# Altium schematic symbol library EButterflySchmeticLibrary.SCHLIB: 120 symbols
Pins are listed as number, name and electrical type; pins without a type are passive.

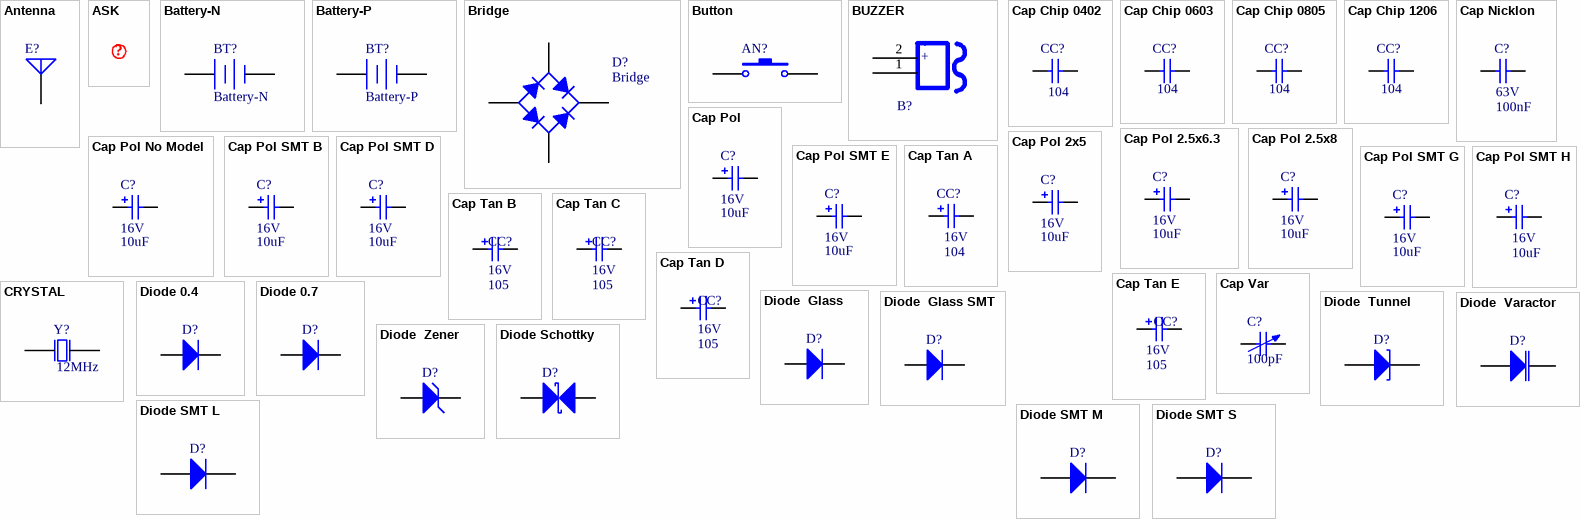
[diagram p0: symbols Antenna to Diode SMT S]

## Antenna
designator E?
Generic Antenna; Published: 24-Mar-1999; Revision: July-2002: Re-released for DXP Platform.; Publisher: Altium Limited
footprint TP
pins: 1 A

## ASK
designator SY?  (value not drawn)
text: ?

## Battery-N
designator BT?
Multicell Battery; Published: 24-Mar-1999; Revision: July-2002: Re-released for DXP Platform.; Publisher: Altium Limited
footprint BAT-CR2032 (CR2032电池座（未加焊）)
pins: 1 -, 2 +

## Battery-P
designator BT?
Multicell Battery; Published: 24-Mar-1999; Revision: July-2002: Re-released for DXP Platform.; Publisher: Altium Limited
footprint BAT-15*4
pins: 1 -, 2 +

## Bridge
designator D?
Full Wave Diode Bridge; Published: 8-Jun-2000; Revision: July-2002: Re-released for DXP Platform.; Publisher: Altium Limited
footprint BRIDGE-P4/D10 (Footprint not found)
footprint BRIDGE-P4/X2.1 (Footprint not found)
footprint BRIDGE-P4/DIP (Footprint not found)
pins: 1 A, 2 C, 3 K, 4 C

## Button
designator AN?  (value not drawn)
Published: 24-Mar-1999; LatestRevisionDate: 17-Jul-2002; LatestRevisionNote: Re-released for DXP Platform.; PackageReference: SPST-2; Publisher: Altium Limited
footprint BUTTON-DIP
footprint B82793 (Footprint not found)
footprint KEY2 (Footprint not found)
footprint BUTTON-BIG-DIP
pins: 1, 2

## BUZZER
designator B?
footprint BUZZER
3D model D7-12-BUZZER (PCB3D Model)
pins: 1, 2
text: +

## Cap Chip 0402
designator CC?  value 104  (hidden comment: Cap Chip 0402)
Polarized Capacitor (Radial); Published: 8-Jun-2000; Revision: July-2002: Re-released for DXP Platform.; Publisher: Altium Limited
footprint CC1005-0402
3D model CC0402 (PCB3D Model)
pins: 1, 2

## Cap Chip 0603
designator CC?  value 104  (hidden comment: Cap Chip 0603)
Polarized Capacitor (Radial); Published: 8-Jun-2000; Revision: July-2002: Re-released for DXP Platform.; Publisher: Altium Limited
footprint CC1608-0603
pins: 1, 2

## Cap Chip 0805
designator CC?  value 104  (hidden comment: Cap Chip 0805)
Polarized Capacitor (Radial); Published: 8-Jun-2000; Revision: July-2002: Re-released for DXP Platform.; Publisher: Altium Limited
footprint CC2012-0805
pins: 1, 2

## Cap Chip 1206
designator CC?  value 104  (hidden comment: Cap Chip 1206)
Polarized Capacitor (Radial); Published: 8-Jun-2000; Revision: July-2002: Re-released for DXP Platform.; Publisher: Altium Limited
footprint CC3216-1206
pins: 1, 2

## Cap Nicklon
designator C?  value 100nF  Voltage: 63V  (hidden comment: Cap Nicklon)
Capacitor; Published: 8-Jun-2000; Revision: July-2002: Re-released for DXP Platform.; Publisher: Altium Limited
footprint Capacitor-Disk-Small
footprint Capacitor-Disk-Middle
footprint Capacitor-Disk-Large
pins: 1, 2

## Cap Pol
designator C?  value 10uF  Voltage: 16V  (hidden comment: Cap Pol)
Polarized Capacitor (Radial); Published: 8-Jun-2000; Revision: July-2002: Re-released for DXP Platform.; Publisher: Altium Limited
footprint CAPPR1.5-4X5
footprint CAPPR2.5-6.3X11.5
footprint CAPPR10-25X30
footprint CAPPR1.5-4X7
footprint CAPPR2-5X11.5
footprint CAPPR2.5-6.3X7
footprint CAPPR3.5-8X12
footprint CAPPR7.5-16X20
pins: 1, 2

## Cap Pol 2.5x6.3
designator C?  value 10uF  Voltage: 16V  (hidden comment: Cap Pol 2.5x6.3)
Polarized Capacitor (Radial); Published: 8-Jun-2000; Revision: July-2002: Re-released for DXP Platform.; Publisher: Altium Limited
footprint CAPPR2.5-6.3X11
footprint CAPPR2.5-6.3X5
footprint CAPPR2.5-6.3X6.8
footprint CAPPR2.5-6.3X7
footprint CAPPR2.5-6.3X9.8
footprint CAPPR2.5-6.3X11.5
footprint CAPPR2.5-6.3X15
pins: 1, 2

## Cap Pol 2.5x8
designator C?  value 10uF  Voltage: 16V  (hidden comment: Cap Pol 2.5x8)
Polarized Capacitor (Radial); Published: 8-Jun-2000; Revision: July-2002: Re-released for DXP Platform.; Publisher: Altium Limited
footprint CAPPR2.5-8X5
footprint CAPPR2.5-8X9.8
footprint CAPPR2.5-8X11
pins: 1, 2

## Cap Pol 2x5
designator C?  value 10uF  Voltage: 16V  (hidden comment: Cap Pol 2x5)
Polarized Capacitor (Radial); Published: 8-Jun-2000; Revision: July-2002: Re-released for DXP Platform.; Publisher: Altium Limited
footprint CAPPR2-5X5
footprint CAPPR2-5X6.8
footprint CAPPR2-5X7
footprint CAPPR2-5X11
footprint CAPPR2-5X11.5
footprint CAPPR2-5X15
pins: 1, 2

## Cap Pol No Model
designator C?  value 10uF  Voltage: 16V  (hidden comment: Cap Pol No Model)
Polarized Capacitor (Radial); Published: 8-Jun-2000; Revision: July-2002: Re-released for DXP Platform.; Publisher: Altium Limited
pins: 1, 2

## Cap Pol SMT B
designator C?  value 10uF  Voltage: 16V  (hidden comment: Cap Pol SMT B)
Polarized Capacitor (Radial); Published: 8-Jun-2000; Revision: July-2002: Re-released for DXP Platform.; Publisher: Altium Limited
3D model SL-B (PCB3D Model)
footprint ED4
pins: 1, 2

## Cap Pol SMT D
designator C?  value 10uF  Voltage: 16V  (hidden comment: Cap Pol SMT D)
Polarized Capacitor (Radial); Published: 8-Jun-2000; Revision: July-2002: Re-released for DXP Platform.; Publisher: Altium Limited
3D model SL-D (PCB3D Model)
footprint ED5
pins: 1, 2

## Cap Pol SMT E
designator C?  value 10uF  Voltage: 16V  (hidden comment: Cap Pol SMT E)
Polarized Capacitor (Radial); Published: 8-Jun-2000; Revision: July-2002: Re-released for DXP Platform.; Publisher: Altium Limited
3D model SL-E (PCB3D Model)
footprint ED6.3
pins: 1, 2

## Cap Pol SMT G
designator C?  value 10uF  Voltage: 16V  (hidden comment: Cap Pol SMT G)
Polarized Capacitor (Radial); Published: 8-Jun-2000; Revision: July-2002: Re-released for DXP Platform.; Publisher: Altium Limited
3D model SL-G (PCB3D Model)
footprint ED8
pins: 1, 2

## Cap Pol SMT H
designator C?  value 10uF  Voltage: 16V  (hidden comment: Cap Pol SMT H)
Polarized Capacitor (Radial); Published: 8-Jun-2000; Revision: July-2002: Re-released for DXP Platform.; Publisher: Altium Limited
3D model SL-H (PCB3D Model)
footprint ED10
pins: 1, 2

## Cap Tan A
designator CC?  value 104  Voltage: 16V  (hidden comment: Cap Tan A)
Polarized Capacitor (Radial); Published: 8-Jun-2000; Revision: July-2002: Re-released for DXP Platform.; Publisher: Altium Limited
footprint TAN-A-3216
3D model TAJ-A (PCB3D Model)
pins: 1 2, 2 1

## Cap Tan B
designator CC?  Capacitance: 105  Voltage: 16V  (hidden comment: Cap Tan B)
Polarized Capacitor (Radial); Published: 8-Jun-2000; Revision: July-2002: Re-released for DXP Platform.; Publisher: Altium Limited
footprint TAN-B-3528
3D model TAJ-B (PCB3D Model)
pins: 1 2, 2 1

## Cap Tan C
designator CC?  Capacitance: 105  Voltage: 16V  (hidden comment: Cap Tan C)
Polarized Capacitor (Radial); Published: 8-Jun-2000; Revision: July-2002: Re-released for DXP Platform.; Publisher: Altium Limited
footprint TAN-C-6032
3D model TAJ-C (PCB3D Model)
pins: 1 2, 2 1

## Cap Tan D
designator CC?  Capacitance: 105  Voltage: 16V  (hidden comment: Cap Tan D)
Polarized Capacitor (Radial); Published: 8-Jun-2000; Revision: July-2002: Re-released for DXP Platform.; Publisher: Altium Limited
footprint TAN-D-7343
3D model TAJ-D (PCB3D Model)
pins: 1 2, 2 1

## Cap Tan E
designator CC?  Capacitance: 105  Voltage: 16V  (hidden comment: Cap Tan E)
Polarized Capacitor (Radial); Published: 8-Jun-2000; Revision: July-2002: Re-released for DXP Platform.; Publisher: Altium Limited
footprint TAN-E-7361
3D model TAJ-E (PCB3D Model)
pins: 1 2, 2 1

## Cap Var
designator C?  value 100pF  (hidden comment: Cap Var)
Variable or Adjustable Capacitor; Published: 24-Mar-1999; Revision: July-2002: Re-released for DXP Platform.; Publisher: Altium Limited
footprint CC3225-1210 (Chip Capacitor; Body 3.2 x 2.5 mm (LxW typ))
pins: 1, 2

## CRYSTAL
designator Y?  Frequency: 12MHz  (hidden comment: CRYSTAL)
Crystal Oscillator; Published: 8-Jun-2000; Revision: July-2002: Re-released for DXP Platform.; Publisher: Altium Limited
footprint X5032
footprint X5070
footprint X6035
pins: 1 OSC1, 2 OSC1, 3 OSC2, 4 OSC2

## Diode 0.4
designator D?
Default Diode; Code - JEDEC: DO-214-AB; Published: 8-Jun-2000; Revision: July-2002: Re-released for DXP Platform.; Publisher: Altium Limited
footprint DIODE-0.4
3D model DO-41 (PCB3D Model)
pins: 1 A, 2 K

## Diode 0.7
designator D?
Default Diode; Code - JEDEC: DO-214-AB; Published: 8-Jun-2000; Revision: July-2002: Re-released for DXP Platform.; Publisher: Altium Limited
footprint DIODE-0.7
pins: 1 A, 2 K

## Diode  Glass
designator D?
High Conductance Fast Diode; Revision 1: 11-Jul-2000: SIM Model Added.; Revision 2: 17-Jul-2002: Re-released for DXP Platform.; Code - JEDEC: DO-204-AH; Published: 8-Jun-2000; Datasheet: Latest Revision: 1997; Package Reference: DO-35; Publisher: Altium Limited
footprint DIODE-0.3
pins: 1 A, 2 K

## Diode  Glass SMT
designator D?  (value not drawn)
High Conductance Fast Diode; Revision 1: 11-Jul-2000: SIM Model Added.; Revision 2: 17-Jul-2002: Re-released for DXP Platform.; Code - JEDEC: DO-204-AH; Published: 8-Jun-2000; Datasheet: Latest Revision: 1997; Package Reference: DO-35; Publisher: Altium Limited
footprint DSO-C2/X2.3
3D model SOD-80 (PCB3D Model)
footprint DSO-C2/X3.3
footprint DSO-F2/D6.1
pins: 1 A, 2 K

## Diode  Tunnel
designator D?  (value not drawn)
Tunnel Diode - RLC Model; Revision 1: 15-Apr-2002: Text note added.; Revision 2: July-2002: Re-released for DXP Platform.; Published: 8-Jun-2000; Publisher: Altium Limited
footprint DSO-F2/D6.1 (SMT LED; 2 Flat Leads)
pins: 1 A, 2 K

## Diode  Varactor
designator D?  (value not drawn)
Variable Capacitance Diode; Note: Pin 2 is not connected and not drawn; Code - JEDEC: SOT23; Published: 8-Jun-2000; Revision: July-2002: Re-released for DXP Platform.; Datasheet: Latest Revision: Jan-1998; Package Reference: SOT23; Publisher: Altium Limited
footprint SO-G3/Z3.3 (SOT-23; 3 Leads; Body 3.0 x 2.5 mm, inc. leads (LxW max))
pins: 1 K, 3 A

## Diode  Zener
designator D?  (value not drawn)
Zener Diode; Published: 8-Jun-2000; Revision: July-2002: Re-released for DXP Platform.; Publisher: Altium Limited
footprint DIODE-0.7 (Zener Diode; 2 Leads)
footprint DIODE-0.3
footprint DIODE-0.4
pins: 1 A, 2 K

## Diode Schottky
designator D?  (value not drawn)
Schottky Diode; Published: 8-Jun-2000; LatestRevisionDate: 17-Jul-2002; LatestRevisionNote: Re-released for DXP Platform.; PackageReference: SMB; Publisher: Altium Limited; Code_JEDEC: DO-214-AA
footprint DSO-C2/X2.3 (DO-214-AA/SMB; 2 C-Bend Leads; Body 5.3 x 3.6 mm, inc. leads (LxW))
pins: 1 A, 2 K

## Diode SMT L
designator D?
Default Diode; Code - JEDEC: DO-214-AB; Published: 8-Jun-2000; Revision: July-2002: Re-released for DXP Platform.; Publisher: Altium Limited
footprint DSO-F2/D6.1
3D model DO-214AC (PCB3D Model)
pins: 1 A, 2 K

## Diode SMT M
designator D?
Default Diode; Code - JEDEC: DO-214-AB; Published: 8-Jun-2000; Revision: July-2002: Re-released for DXP Platform.; Publisher: Altium Limited
footprint DSO-F2/D6.1
3D model DO-214AB (PCB3D Model)
pins: 1 A, 2 K

## Diode SMT S
designator D?
Default Diode; Code - JEDEC: DO-214-AB; Published: 8-Jun-2000; Revision: July-2002: Re-released for DXP Platform.; Publisher: Altium Limited
footprint DSO-C2/X3.3
3D model DO-214AA (PCB3D Model)
pins: 1 A, 2 K

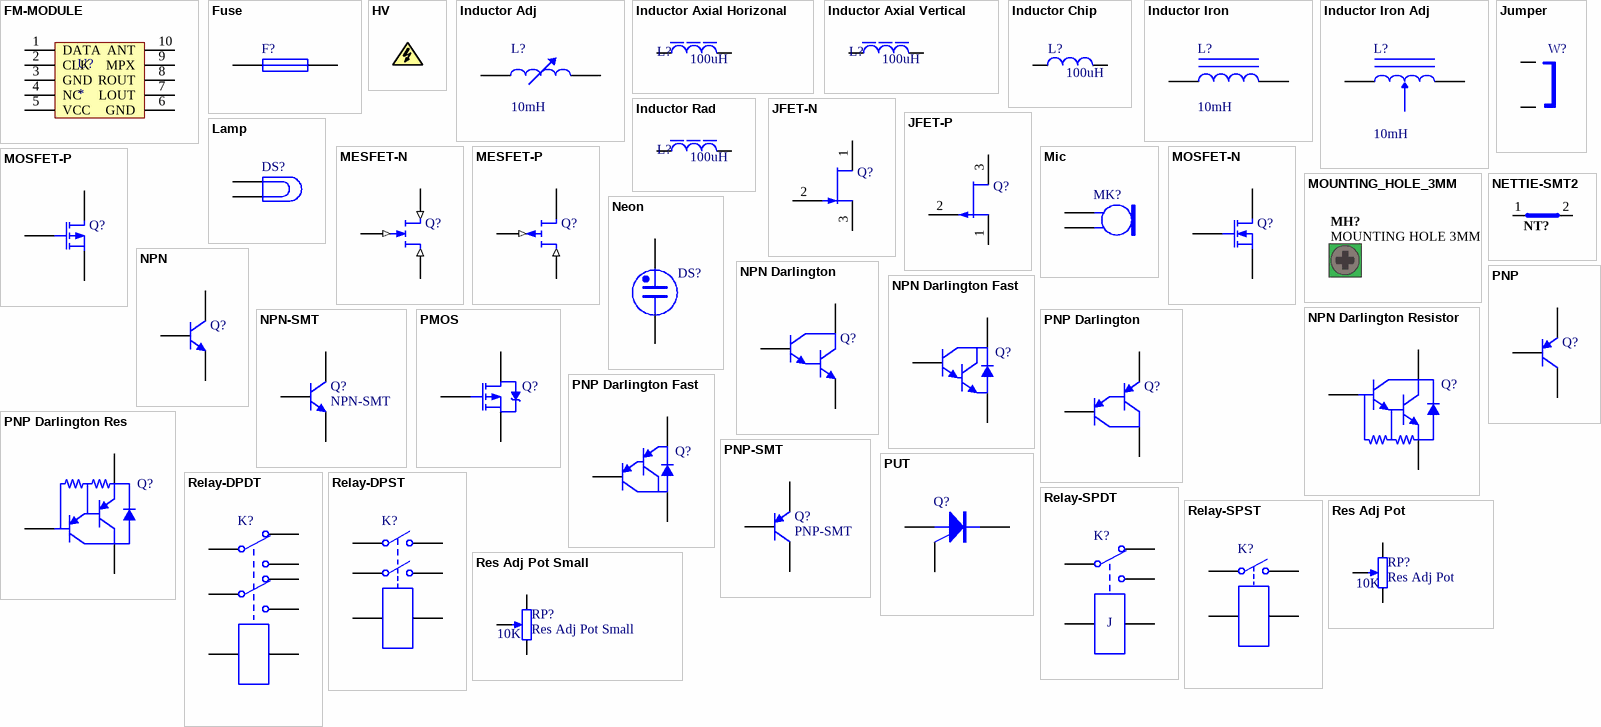
[diagram p1: symbols FM-MODULE to Res Adj Pot Small]

## FM-MODULE
designator U?
FM-RECIVER
footprint FM-MODULE
pins: 1 DATA, 2 CLK, 3 GND, 4 NC, 5 VCC, 6 GND, 7 LOUT, 8 ROUT, 9 MPX, 10 ANT

## Fuse
designator F?
Fuse; Published: 8-Jun-2000; Revision: July-2002: Re-released for DXP Platform.; Publisher: Altium Limited
footprint FUSE
footprint FUSE-15MM
footprint FUSE-30MM
footprint FUSE-L
pins: 1, 2

## HV
designator HV?  (value not drawn)
footprint HV-FLAG

## Inductor Adj
designator L?  value 10mH
Adjustable Inductor; Set Position: 0.5; Published: 24-Mar-1999; Revision: July-2002: Re-released for DXP Platform.; Publisher: Altium Limited
footprint AXIAL-0.8 (Adjustable Inductor; 2 Leads)
pins: 1, 2

## Inductor Axial Horizonal
designator L?  value 100uH  (hidden comment: Inductor Axial Horizonal)
Inductor; Published: 8-Jun-2000; Revision: July-2002: Re-released for DXP Platform.; Publisher: Altium Limited
footprint INDUCTOR-AXIAL-H0.2
footprint INDUCTOR-AXIAL-H0.3 (1/8W电阻)
footprint INDUCTOR-AXIAL-H0.4
footprint INDUCTOR-AXIAL-H0.5
footprint INDUCTOR-AXIAL-H0.6
pins: 1, 2

## Inductor Axial Vertical
designator L?  value 100uH  (hidden comment: Inductor Axial Vertical)
Inductor; Published: 8-Jun-2000; Revision: July-2002: Re-released for DXP Platform.; Publisher: Altium Limited
footprint INDUCTOR-AXIAL0.1
footprint INDUCTOR-AXIAL0.2
pins: 1, 2

## Inductor Chip
designator L?  value 100uH  (hidden comment: Inductor Chip)
Inductor; Published: 8-Jun-2000; Revision: July-2002: Re-released for DXP Platform.; Publisher: Altium Limited
footprint CR1005-0402
footprint CC4532-1812
footprint CR1608-0603
footprint CR2012-0805
footprint CC3216-1206
pins: 1, 2

## Inductor Iron
designator L?  value 10mH
Magnetic-Core Inductor; Published: 24-Mar-1999; Revision: July-2002: Re-released for DXP Platform.; Publisher: Altium Limited
footprint AXIAL-0.9 (Magnetic-Core Inductor; 2 Leads)
pins: 1, 2

## Inductor Iron Adj
designator L?  value 10mH
Adjustable Magnetic-Core Inductor; Set Position: 0.5; Published: 24-Mar-1999; Revision: July-2002: Re-released for DXP Platform.; Publisher: Altium Limited
footprint AXIAL-1.0 (Adjustable Magnetic-Core Inductor; 2 Leads)
pins: 1, 2

## Inductor Rad
designator L?  value 100uH  (hidden comment: Inductor Rad)
Inductor; Published: 8-Jun-2000; Revision: July-2002: Re-released for DXP Platform.; Publisher: Altium Limited
footprint INDUCTOR-RAD.1
footprint INDUCTOR-RAD.2
pins: 1, 2

## JFET-N
designator Q?
N-Channel JFET; Code - JEDEC: TO-254-AA; Published: 8-Jun-2000; Revision: July-2002: Re-released for DXP Platform.; Publisher: Altium Limited
footprint SFM-T3/A6.6V (TO, Thru-Hole, Vertical, Heatsink Mounted; 3 In-Line Leads; Pitch 3.81 mm)
pins: 1 D, 2 G, 3 S

## JFET-P
designator Q?
P-Channel JFET; Published: 8-Jun-2000; Revision: July-2002: Re-released for DXP Platform.; Package Reference: TO-18; Publisher: Altium Limited
footprint SO-F3/Y.75R (SC-89; 3 Flat Leads; Body 1.6 x 1.6 x 0.7 mm, inc leads (LxWxH typ))
pins: 1 D, 2 G, 3 S

## Jumper
designator W?
Jumper Wire; Published: 24-Mar-1999; Revision: July-2002: Re-released for DXP Platform.; Publisher: Altium Limited
footprint JUMP-10MM
footprint JUMP-14MM
footprint JUMP-15MM
footprint HDR1X2 (Connector; Header; 2 Position)
pins: 1, 2

## Lamp
designator DS?
Incandescent Bulb; Published: 24-Mar-1999; Revision: July-2002: Re-released for DXP Platform.; Publisher: Altium Limited
footprint LED-R5-H5-HAT
pins: 1, 2

## MESFET-N
designator Q?
N-Channel MESFET; Code - JEDEC: TO-18; Published: 8-Jun-2000; Revision: July-2002: Re-released for DXP Platform.; Publisher: Altium Limited
footprint CAN-3/D5.9 (Can; 3 Leads; Pin Circle Dia. 2.54 mm)
pins: 1 D (in), 2 G (in), 3 S (in)

## MESFET-P
designator Q?
P-Channel MESFET; Code - JEDEC: TO-18; Published: 8-Jun-2000; Revision: July-2002: Re-released for DXP Platform.; Publisher: Altium Limited
footprint CAN-3/D5.9 (Can; 3 Leads; Pin Circle Dia. 2.54 mm)
pins: 1 D (in), 2 G (in), 3 S

## Mic
designator MK?
Microphone; Published: 24-Mar-1999; Revision: July-2002: Re-released for DXP Platform.; Publisher: Altium Limited
footprint CAPPR2.5-6.3X5
footprint CAPPR5-10X12.5
pins: 1, 2

## MOSFET-N
designator Q?
N-Channel MOSFET; Published: 8-Jun-2000; Revision: July-2002: Re-released for DXP Platform.; Publisher: Altium Limited
footprint BCY-W3/H.8 (TO Package, Flat Index; 3 In-Line, Axial Leads; Body Dia. 4.6mm)
pins: 1 D, 2 G, 3 S

## MOSFET-P
designator Q?
P-Channel MOSFET; Published: 8-Jun-2000; Revision: July-2002: Re-released for DXP Platform.; Publisher: Altium Limited
footprint BCY-W3/H.8 (TO Package, Flat Index; 3 In-Line, Axial Leads; Body Dia. 4.6mm)
pins: 1 D, 2 G, 3 S

## MOUNTING_HOLE_3MM
designator MH?, comment MOUNTING HOLE 3MM  (no BOM)
Mounting Hole, M3 Screw, Plated, Square Pad; Status: Production; Category: Mounting-Hole
footprint SCREW_HOLE_3MM
footprint Screw hexagon 3mm (screw hole)
pins: 1 hidden

## Neon
designator DS?
Neon Bulb; Published: 24-Mar-1999; Revision: July-2002: Re-released for DXP Platform.; Publisher: Altium Limited
footprint HDR1X2 (Connector; Header; 2 Position)
pins: 1, 2

## NETTIE-SMT2
designator NT?, comment Net Tie SMT2  (value not drawn)  (net tie, no BOM)
Net-Tie, Surface Mount, 2 x 0.4mm x 0.2mm SMT Pads - For 0.2mm Track; Status: Production; Category: Net-Tie
footprint NETTIE-SMT2-8X8
pins: 1 Net1, 2 Net2

## NPN
designator Q?
NPN Bipolar Transistor; Code - JEDEC: TO-226-AA; Published: 8-Jun-2000; Revision: July-2002: Re-released for DXP Platform.; Publisher: Altium Limited
footprint TO-92C
footprint TO-92A
footprint TO-92B
footprint TO-92C-TRIANGLE (作者：王千会)
pins: 1 E, 2 B, 3 1

## NPN Darlington
designator Q?
NPN Darlington Bipolar Transistor; Code - JEDEC: TO-92; Published: 8-Jun-2000; Revision: July-2002: Re-released for DXP Platform.; Datasheet: Discrete Semiconductor Products Databook (1989); Package Reference: TO-92; Publisher: Altium Limited
footprint BCY-W3/H.8
pins: 1 C, 2 B, 3 E

## NPN Darlington Fast
designator Q?
NPN Darlington Bipolar Transistor; Published: 8-Jun-2000; Revision: July-2002: Re-released for DXP Platform.; Publisher: Altium Limited
footprint BCY-W3/H.8
pins: 1 C, 2 B, 3 E

## NPN Darlington Resistor
designator Q?
NPN Darlington Bipolar Transistor; Published: 8-Jun-2000; Revision: July-2002: Re-released for DXP Platform.; Publisher: Altium Limited
footprint BCY-W3/H.8
pins: 1 C, 2 B, 3 E

## NPN-SMT
designator Q?
NPN Bipolar Transistor; Code - JEDEC: TO-226-AA; Published: 8-Jun-2000; Revision: July-2002: Re-released for DXP Platform.; Publisher: Altium Limited
footprint SO-G3/C2.5
3D model SOT-23-3P (PCB3D Model)
pins: 1 E, 2 B, 3 C

## PMOS
designator Q?
P-Channel Power MOSFET; Note: Pin 4 not drawn and electrically connected to Pin 2.; Code - JEDEC: TO-220-AB; Published: 8-Jun-2000; Revision: July-2002: Re-released for DXP Platform.; Datasheet: Latest Revision: PD-9.390D; Package Reference: TO-220AB; Publisher: Altium Limited
footprint SFM-T3/A4.7V (TO, Thru-Hole, Vertical, Heatsink Mounted; 3 In-Line Leads; Pitch 2.54 mm)
pins: 1 G, 2 D, 3 S

## PNP
designator Q?
PNP Bipolar Transistor; Code - JEDEC: SOT-23; Published: 8-Jun-2000; Revision: July-2002: Re-released for DXP Platform.; Publisher: Altium Limited
footprint TO-92B
footprint TO-92C
footprint TO-92A
pins: 1 E, 2 B, 3 C

## PNP Darlington
designator Q?
PNP Darlington Bipolar Transistor; Published: 8-Jun-2000; Revision: July-2002: Re-released for DXP Platform.; Datasheet: Latest Revision: May-1994; Package Reference: E3; Publisher: Altium Limited
footprint BCY-W3/H.8
pins: 1 E, 2 B, 3 C

## PNP Darlington Fast
designator Q?
PNP Darlington Bipolar Transistor; Published: 8-Jun-2000; Revision: July-2002: Re-released for DXP Platform.; Publisher: Altium Limited
footprint BCY-W3/H.8
pins: 1 C, 2 B, 3 E

## PNP Darlington Res
designator Q?
PNP Darlington Bipolar Transistor; Published: 8-Jun-2000; Revision: July-2002: Re-released for DXP Platform.; Publisher: Altium Limited
footprint BCY-W3/H.8
pins: 1 C, 2 B, 3 E

## PNP-SMT
designator Q?
PNP Bipolar Transistor; Code - JEDEC: SOT-23; Published: 8-Jun-2000; Revision: July-2002: Re-released for DXP Platform.; Publisher: Altium Limited
footprint SO-G3/C2.5 (SOT-23; 3 Leads; Body 3.0 x 2.6 mm, inc. leads (LxW max))
3D model SOT-23-3P (PCB3D Model)
pins: 1 C, 2 B, 3 E

## PUT
designator Q?
Programmable Unijunction Transistor; Published: 8-Jun-2000; Revision: July-2002: Re-released for DXP Platform.; Publisher: Altium Limited
footprint CAN-3/D5.6 (Can; 3 Leads; Pin Circle Dia. 2.54 mm)
pins: 1 A, 2 G, 3 K

## Relay-DPDT
designator K?
Dual-Pole Dual-Throw Relay; Published: 24-Mar-1999; Revision: July-2002: Re-released for DXP Platform.; Publisher: Altium Limited
footprint RELAY_DPDT
pins: DAO1, DAO1L 2, DAO1R 3, DAO2, DAO2L 5, DAO2R 6, DC1 7, DC2 8

## Relay-DPST
designator K?
Dual-Pole Single-Throw Relay; Published: 24-Mar-1999; Revision: July-2002: Re-released for DXP Platform.; Publisher: Altium Limited
pins: 1, 2, 3, 4, 5, 6

## Relay-SPDT
designator K?  (value not drawn)
Single-Pole Dual-Throw Relay; Published: 24-Mar-1999; Revision: July-2002: Re-released for DXP Platform.; Publisher: Altium Limited
footprint Relay-SPDT
pins: 1, 2, 3, 4, 5
text: J

## Relay-SPST
designator K?
Single-Pole Single-Throw Relay; Published: 24-Mar-1999; Revision: July-2002: Re-released for DXP Platform.; Publisher: Altium Limited
pins: 1, 2, 3, 4

## Res Adj Pot
designator RP?  value 10K
Potentiometer; Set Position: 0.5; Published: 8-Jun-2000; Revision: July-2002: Re-released for DXP Platform.; Publisher: Altium Limited
footprint POT BIG
footprint POT
pins: 1 TOP, 2 BOT, 3 TAP
1 alternate drawing of the same symbol

## Res Adj Pot Small
designator RP?  value 10K
Potentiometer; Set Position: 0.5; Published: 8-Jun-2000; Revision: July-2002: Re-released for DXP Platform.; Publisher: Altium Limited
3D model POT-SMALL (PCB3D Model)
footprint POT SMALL (Footprint not found)
pins: 1 TOP, 2 BOT, 3 TAP
1 alternate drawing of the same symbol

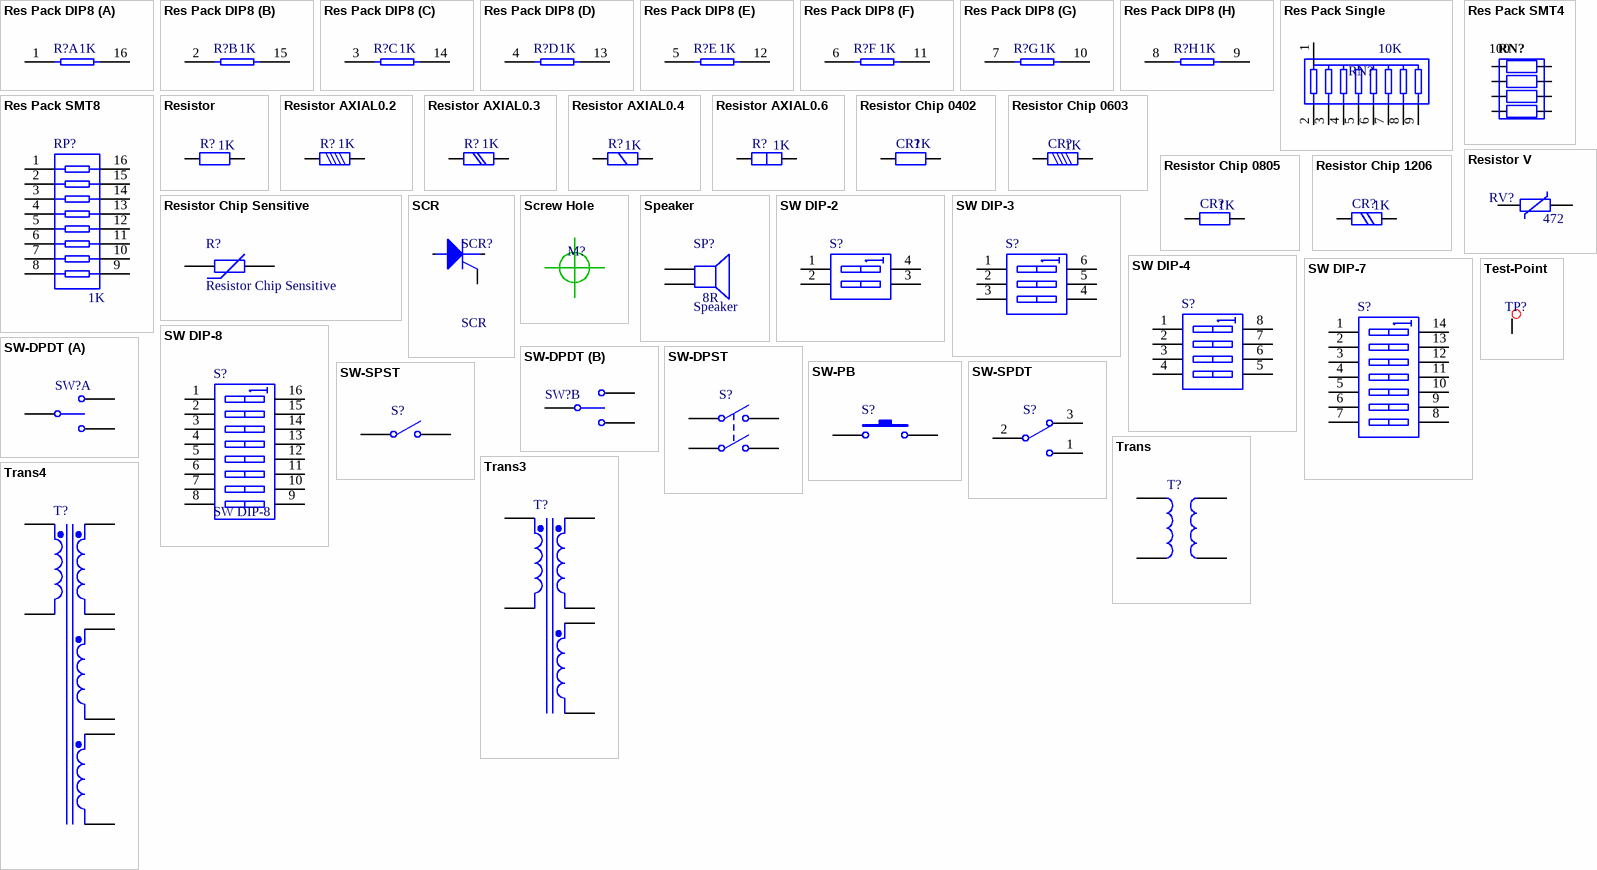
[diagram p2: symbols Res Pack DIP8 to Trans4]

## Res Pack DIP8
designator R?  value 1K  (hidden comment: Res Pack DIP8)
Resistor Array - Parts; Code - JEDEC: MO-001-AC; Published: 24-Mar-1999; Revision: July-2002: Re-released for DXP Platform.; Publisher: Altium Limited
footprint DIP-16 (DIP; 16 Leads; Row Spacing 7.62 mm; Pitch 2.54 mm)
part A pins: 1, 16
part B pins: 2, 15
part C pins: 3, 14
part D pins: 4, 13
part E pins: 5, 12
part F pins: 6, 11
part G pins: 7, 10
part H pins: 8, 9

## Res Pack Single
designator RN?  value 10K  (hidden comment: *)
Res Pack 8
footprint RES-PACK-DIP9
pins: 1, 2, 3, 4, 5, 6, 7, 8, 9

## Res Pack SMT4
designator RN?, comment Resistance: 100  (hidden comment: RESNET 4 x 100R)
Resistor Network, Isolated, 4 x 100R, 5%, SMD 0402 x 4; Power Rating: 63 mW; Mounting Technology: Surface Mount; Status: Unreleased; Tolerance: 5 %; Category: Resistor-Network
footprint RESNET-1005X4
pins: 1, 2, 3, 4, 5, 6, 7, 8

## Res Pack SMT8
designator RP?  value 1K  (hidden comment: Res Pack SMT8)
Resistor Array; Code - JEDEC: MO-150-AC; Published: 24-Mar-1999; Revision: July-2002: Re-released for DXP Platform.; Publisher: Altium Limited
footprint SSO-G16/X.4
pins: 1, 2, 3, 4, 5, 6, 7, 8, 9, 10, 11, 12, 13, 14, 15, 16

## Resistor
designator R?  value 1K  (hidden comment: Resistor)
Published: 8-Jun-2000; Revision: July-2002: Re-released for DXP Platform.; Publisher: Altium Limited
footprint AXIAL-0.3 (1/4W电阻)
footprint AXIAL-0.5
footprint AXIAL-0.7
footprint AXIAL-0.8
footprint AXIAL-0.9
footprint AXIAL-1.0
footprint AXIAL-0.2
pins: 1, 2
1 alternate drawing of the same symbol

## Resistor AXIAL0.2
designator R?  value 1K  (hidden comment: Resistor AXIAL0.2)
Resistor; Published: 8-Jun-2000; Revision: July-2002: Re-released for DXP Platform.; Publisher: Altium Limited
footprint AXIAL-0.2
3D model AXIAL-0_2 (PCB3D Model)
pins: 1, 2
1 alternate drawing of the same symbol

## Resistor AXIAL0.3
designator R?  value 1K  (hidden comment: Resistor AXIAL0.3)
Resistor; Published: 8-Jun-2000; Revision: July-2002: Re-released for DXP Platform.; Publisher: Altium Limited
footprint AXIAL-0.3 (1/4W电阻)
pins: 1, 2
1 alternate drawing of the same symbol

## Resistor AXIAL0.4
designator R?  value 1K  (hidden comment: Resistor AXIAL0.4)
Resistor; Published: 8-Jun-2000; Revision: July-2002: Re-released for DXP Platform.; Publisher: Altium Limited
footprint AXIAL-0.4
3D model AXIAL-0_4 (PCB3D Model)
pins: 1, 2
1 alternate drawing of the same symbol

## Resistor AXIAL0.6
designator R?  value 1K  (hidden comment: Resistor AXIAL0.6)
Resistor; Published: 8-Jun-2000; Revision: July-2002: Re-released for DXP Platform.; Publisher: Altium Limited
footprint AXIAL-0.6
3D model AXIAL-0_6 (PCB3D Model)
pins: 1, 2
1 alternate drawing of the same symbol

## Resistor Chip 0402
designator CR?  value 1K  (hidden comment: Resistor Chip 0402)
Resistor; Published: 8-Jun-2000; Revision: July-2002: Re-released for DXP Platform.; Publisher: Altium Limited
footprint CR1005-0402
3D model R0402 (PCB3D Model)
pins: 1, 2
1 alternate drawing of the same symbol

## Resistor Chip 0603
designator CR?  value 1K  (hidden comment: Resistor Chip 0603)
Resistor; Published: 8-Jun-2000; Revision: July-2002: Re-released for DXP Platform.; Publisher: Altium Limited
footprint CR1608-0603
3D model R0603 (PCB3D Model)
pins: 1, 2
1 alternate drawing of the same symbol

## Resistor Chip 0805
designator CR?  value 1K  (hidden comment: Resistor Chip 0805)
Resistor; Published: 8-Jun-2000; Revision: July-2002: Re-released for DXP Platform.; Publisher: Altium Limited
3D model R0805 (PCB3D Model)
footprint CR2012-0805
pins: 1, 2
1 alternate drawing of the same symbol

## Resistor Chip 1206
designator CR?  value 1K  (hidden comment: Resistor Chip 1206)
Resistor; Published: 8-Jun-2000; Revision: July-2002: Re-released for DXP Platform.; Publisher: Altium Limited
3D model R1206 (PCB3D Model)
footprint CR3216-1206
pins: 1, 2
1 alternate drawing of the same symbol

## Resistor Chip Sensitive
designator R?
Varistor (Voltage-Sensitive Resistor); Published: 24-Mar-1999; Revision: July-2002: Re-released for DXP Platform.; Publisher: Altium Limited
footprint CR2012-0805
pins: 1, 2

## Resistor V
designator RV?  value 472  (hidden comment: Resistor V)
Voltage sensitive; Published: 24-Mar-1999; Revision: July-2002: Re-released for DXP Platform.; Publisher: Altium Limited
footprint RESV
pins: 1, 2

## SCR
designator SCR?
Silicon Controlled Rectifier; Code - JEDEC: TO-220-AB; Published: 8-Jun-2000; Revision: July-2002: Re-released for DXP Platform.; Package Reference: TO-220AB; Publisher: Altium Limited
footprint SFM-T3/E10.7V (TO, Thru-Hole, Vertical, Heatsink Mounted; 3 In-Line Leads; Pitch 2.54 mm)
footprint BCY-W3/E4
pins: 1 A, 2 G, 3 K

## Screw Hole
designator M?  (value not drawn)
footprint Screw hexagon 3mm (screw hole)
footprint SCREW_HOLE_3MM

## Speaker
designator SP?  RL: 8R
Loudspeaker; Published: 24-Mar-1999; Revision: July-2002: Re-released for DXP Platform.; Publisher: Altium Limited
pins: 1, 2

## SW DIP-2
designator S?
DIP Switch; Published: 24-Mar-1999; Revision: July-2002: Re-released for DXP Platform.; Publisher: Altium Limited
footprint DIP-4 (DIP; 4 Leads; Row Spacing 7.62 mm; Pitch 2.54 mm)
pins: 1 A1, 2 A2, 3 B2, 4 B1

## SW DIP-3
designator S?
DIP Switch; Code - JEDEC: MO-001-AM; Published: 24-Mar-1999; Revision: July-2002: Re-released for DXP Platform.; Publisher: Altium Limited
footprint DIP-6 (DIP; 6 Leads; Row Spacing 7.62 mm; Pitch 2.54 mm)
pins: 1 A1, 2 A2, 3 A3, 4 B3, 5 B2, 6 B1

## SW DIP-4
designator S?
DIP Switch; Code - JEDEC: MS-012-AA; Code - IPC: SO8; Published: 24-Mar-1999; Revision: July-2002: Re-released for DXP Platform.; Publisher: Altium Limited
footprint DIP-8
pins: 1 A1, 2 A2, 3 A3, 4 A4, 5 B4, 6 B3, 7 B2, 8 B1

## SW DIP-7
designator S?
DIP Switch; Code - JEDEC: MO-001-AF; Published: 24-Mar-1999; Revision: July-2002: Re-released for DXP Platform.; Publisher: Altium Limited
footprint DIP-14 (DIP; 14 Leads; Row Spacing 7.62 mm; Pitch 2.54 mm)
pins: 1 A1, 2 A2, 3 A3, 4 A4, 5 A5, 6 A6, 7 A7, 8 B7, 9 B6, 10 B5, 11 B4, 12 B3, 13 B2, 14 B1

## SW DIP-8
designator S?
DIP Switch; Code - JEDEC: MO-001-AF; Published: 24-Mar-1999; Revision: July-2002: Re-released for DXP Platform.; Publisher: Altium Limited
footprint DIP-16
pins: 1 A1, 2 A2, 3 A3, 4 A4, 5 A5, 6 A6, 7 A7, 8 A8, 9 B8, 10 B7, 11 B6, 12 B5, 13 B4, 14 B3, 15 B1, 16 A1

## SW-DPDT
designator SW?  (value not drawn)
Double-Pole, Double-Throw Switch; Published: 24-Mar-1999; Revision: July-2002: Re-released for DXP Platform.; Publisher: Altium Limited
footprint DPDT-6-SMALL (Footprint not found)
footprint DPDT-6-BIG
part A pins: 1, 2, 3
part B pins: 4, 5, 6

## SW-DPST
designator S?
Double-Pole, Single-Throw Switch; Published: 24-Mar-1999; Revision: July-2002: Re-released for DXP Platform.; Publisher: Altium Limited
footprint DPST-4 (Double-Pole, Single-Throw Switch; 4 Leads)
pins: 1 COMMON1, 2 NO1, 3 COMMON2, 4 NO2

## SW-PB
designator S?
Switch; Published: 24-Mar-1999; Revision: July-2002: Re-released for DXP Platform.; Publisher: Altium Limited
footprint KEY-pad (Footprint not found)
pins: 1, 2

## SW-SPDT
designator S?
SPDT Subminiature Toggle Switch, Right Angle Mounting, Vertical Actuation; Revision 1: Jul-2002: Re-released for DXP Platform.; Revision 2: 17-Dec-2003: Schematic revised, PCB Footprint replaced.; Published: 24-Mar-1999; Datasheet: Latest Revision: 05-Dec-2000; Publisher: Altium Limited
footprint TL36WW15050
pins: 1, 2, 3

## SW-SPST
designator S?
Single-Pole, Single-Throw Switch; Published: 24-Mar-1999; Revision: July-2002: Re-released for DXP Platform.; Publisher: Altium Limited
footprint SPST-2 (Single-Pole, Single-Throw Switch; 2 Leads)
pins: 1 COMMON, 2 NO

## Test-Point
designator TP?  (value not drawn)
Test-Point
footprint TP
pins: 1 0

## Trans
designator T?
Transformer; Published: 24-Mar-1999; Revision: July-2002: Re-released for DXP Platform.; Publisher: Altium Limited
pins: 1, 2, 3, 4

## Trans3
designator T?
Three-winding Transformer (Non-Ideal); Published: 25-Jan-2001; Revision: July-2002: Re-released for DXP Platform.; Publisher: Altium Limited
pins: 1 Pri+, 2 Pri-, 3 Sec1+, 4 Sec1-, 5 Sec2+, 6 Sec2-

## Trans4
designator T?
Four-winding Transformer (Non-Ideal); Published: 25-Jan-2001; Revision: July-2002: Re-released for DXP Platform.; Publisher: Altium Limited
pins: 1 Pri+, 2 Pri-, 3 Sec1+, 4 Sec1-, 5 Sec2+, 6 Sec2-, 7 Sec3+, 8 Sec3-

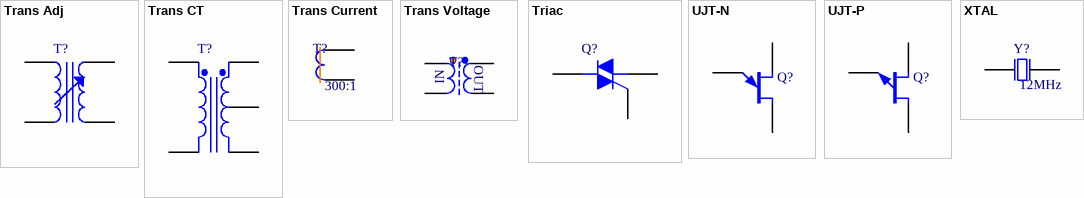
[diagram p3: symbols Trans Adj to XTAL]

## Trans Adj
designator T?
Variable Transformer; Published: 24-Mar-1999; Revision: July-2002: Re-released for DXP Platform.; Publisher: Altium Limited
pins: 1, 2, 3, 4

## Trans CT
designator T?
Center-Tapped Transformer (Coupled Inductor Model); Published: 8-Jun-2000; Revision: July-2002: Re-released for DXP Platform.; Publisher: Altium Limited
pins: 1 Pri+, 2 Pri-, 3 Sec+, 4 SecCT, 5 Sec-

## Trans Current
designator T?  Ratio: 300:1  (hidden comment: *)
footprint TRANS-CURRENT
pins: K1, K2 1

## Trans Voltage
designator T?  (value not drawn)
footprint TRANS VOLTAGE
pins: IN1 G, IN2, OUT1 OUT2, OUT2 OUT1
text: OUT; IN

## Triac
designator Q?
Silicon Bidirectional Triode Thyristor; Note: Pin 2 is electrically connected to Pin 4 (TAB); Code - JEDEC: TO-251-AA; Published: 29-Sep-2000; Revision: July-2002: Re-released for DXP Platform.; Datasheet: Latest Revision: 1999; Package Reference: 221A-09; Publisher: Altium Limited
footprint SFM-T3/A2.4V (TO, Thru-Hole, Vertical, Heatsink Mounted; 3 In-Line Leads; Pitch 2.28 mm)
pins: 1 M1, 2 M2, 3 G

## UJT-N
designator Q?
Unijunction Transistor with N-Type Base; Code - JEDEC: TO-205-AF; Published: 8-Jun-2000; Revision: July-2002: Re-released for DXP Platform.; Publisher: Altium Limited
footprint CAN-3/Y1.4 (Can; 3 Leads; Pin Circle Dia. 5.08 mm)
pins: 1 E, 2 B1, 3 B2

## UJT-P
designator Q?
Unijunction Transistor with P-Type Base; Published: 24-Mar-1999; Revision: July-2002: Re-released for DXP Platform.; Publisher: Altium Limited
footprint CAN-3/Y1.5 (TO-205 AA)
pins: 1 E, 2 B1, 3 B2

## XTAL
designator Y?  Frequency: 12MHz  (hidden comment: XTAL)
Crystal Oscillator; Published: 8-Jun-2000; Revision: July-2002: Re-released for DXP Platform.; Publisher: Altium Limited
footprint XTAL-Cylinder (柱式晶振)
footprint XTAL (卧式安装)
footprint XTAL-49/U_N (高型晶振（未加焊）)
footprint XTAL-PINGBI (Footprint not found)
footprint XTAL-SMD
footprint XTAL-1 (卧式安装)
footprint XTAL-2 (卧式安装)
pins: 1 OSC1, 2 OSC2